# Altium schematic symbol library Capacitors Ceramic SMD 2012.SchLib: 19 symbols
Pins are listed as number, name and electrical type; pins without a type are passive.

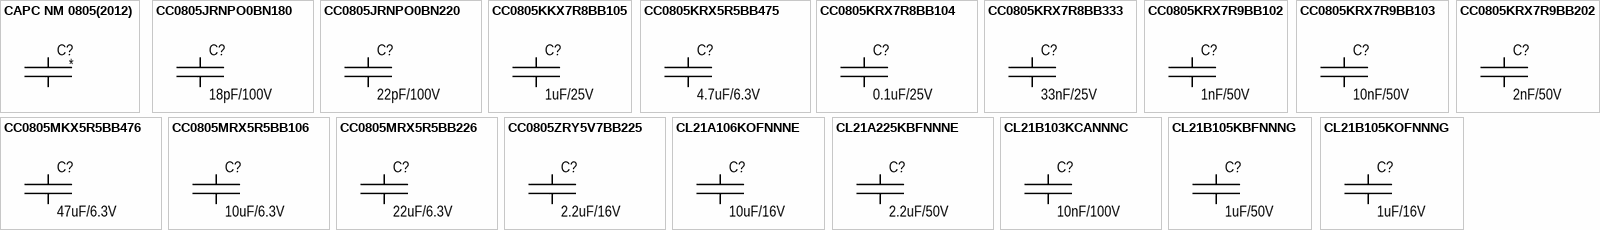
[diagram p0: symbols CAPC NM 0805(2012) to CL21B105KOFNNNG]

## CAPC NM 0805(2012)
designator C?, comment /  (value not drawn)  (no BOM)
CAPC NM 0805(2012); Group: Discrete; Type: Ceramic; Component: Capacitor Ceramic; Package: 0805 (2012); Mounting type: Surface mount (Not mounted); Height: 1.45mm; Dimension: 2.00mm x 1.25mm
footprint CAPC2012N_NM (Chip Resistor, Body 2.0x1.2mm, IPC High Density)
footprint CAPC2012M_NM (Chip Resistor, Body 2.0x1.2mm, IPC High Density)
footprint CAPC2012L_NM (Chip Resistor, Body 2.0x1.2mm, IPC High Density)
pins: 1, 2

## CC0805JRNPO0BN180
designator C?, comment 18pF/100V
CAPC 18pF 100V 0805(2012); Manufacturer: Yageo; Part name: CC0805JRNPO0BN180; Group: Discrete; Temperature coefficient: C0G, NP0; Tolerance: ±5%; Type: Ceramic; Component: Capacitor Ceramic; Voltage: 100V; Package: 0805 (2012); Capacitance: 18pF; Operating temperature: -55°C +125°C; Mounting type: Surface mount; Height: 0.70mm; Dimension: 2.00mm x 1.25mm
footprint CAPC2012N (Chip Resistor, Body 2.0x1.2mm, IPC High Density)
footprint CAPC2012M (Chip Resistor, Body 2.0x1.2mm, IPC High Density)
footprint CAPC2012L (Chip Resistor, Body 2.0x1.2mm, IPC High Density)
pins: 1, 2

## CC0805JRNPO0BN220
designator C?, comment 22pF/100V
CAPC 22pF 100V 0805(2012); Manufacturer: Yageo; Part name: CC0805JRNPO0BN220; Group: Discrete; Temperature coefficient: C0G, NP0; Tolerance: ±5%; Type: Ceramic; Component: Capacitor Ceramic; Voltage: 100V; Package: 0805 (2012); Capacitance: 22pF; Operating temperature: -55°C +125°C; Mounting type: Surface mount; Height: 0.70mm; Dimension: 2.00mm x 1.25mm
footprint CAPC2012N (Chip Resistor, Body 2.0x1.2mm, IPC High Density)
footprint CAPC2012M (Chip Resistor, Body 2.0x1.2mm, IPC High Density)
footprint CAPC2012L (Chip Resistor, Body 2.0x1.2mm, IPC High Density)
pins: 1, 2

## CC0805KKX7R8BB105
designator C?, comment 1uF/25V
CAPC 1uF 25V 0805(2012); Manufacturer: Yageo; Part name: CC0805KKX7R8BB105; Group: Discrete; Temperature coefficient: X7R; Tolerance: ±10%; Type: Ceramic; Component: Capacitor Ceramic; Voltage: 25V; Package: 0805 (2012); Capacitance: 1uF; Operating temperature: -55°C +125°C; Mounting type: Surface mount; Height: 1.45mm; Dimension: 2.00mm x 1.25mm
footprint CAPC2012N (Chip Resistor, Body 2.0x1.2mm, IPC High Density)
footprint CAPC2012M (Chip Resistor, Body 2.0x1.2mm, IPC High Density)
footprint CAPC2012L (Chip Resistor, Body 2.0x1.2mm, IPC High Density)
pins: 1, 2

## CC0805KRX5R5BB475
designator C?, comment 4.7uF/6.3V
CAPC 4.7uF 6.3V 0805(2012); Manufacturer: Yageo; Part name: CC0805KRX5R5BB475; Group: Discrete; Temperature coefficient: X5R; Tolerance: ±10%; Type: Ceramic; Component: Capacitor Ceramic; Voltage: 6.3V; Package: 0805 (2012); Capacitance: 4.7uF; Operating temperature: -55°C +85°C; Mounting type: Surface mount; Height: 1.45mm; Dimension: 2.00mm x 1.25mm
footprint CAPC2012N (Chip Resistor, Body 2.0x1.2mm, IPC High Density)
footprint CAPC2012M (Chip Resistor, Body 2.0x1.2mm, IPC High Density)
footprint CAPC2012L (Chip Resistor, Body 2.0x1.2mm, IPC High Density)
pins: 1, 2

## CC0805KRX7R8BB104
designator C?, comment 0.1uF/25V
CAPC 0.1uF 25V 0805(2012); Manufacturer: Yageo; Part name: CC0805KRX7R8BB104; Group: Discrete; Temperature coefficient: X7R; Tolerance: ±10%; Type: Ceramic; Component: Capacitor Ceramic; Voltage: 25V; Package: 0805 (2012); Capacitance: 0.1uF; Operating temperature: -55°C +125°C; Mounting type: Surface mount; Height: 1.45mm; Dimension: 2.00mm x 1.25mm
footprint CAPC2012N (Chip Resistor, Body 2.0x1.2mm, IPC High Density)
footprint CAPC2012M (Chip Resistor, Body 2.0x1.2mm, IPC High Density)
footprint CAPC2012L (Chip Resistor, Body 2.0x1.2mm, IPC High Density)
pins: 1, 2

## CC0805KRX7R8BB333
designator C?, comment 33nF/25V
CAPC 33nF 25V 0805(2012); Manufacturer: Yageo; Part name: CC0805KRX7R8BB333; Group: Discrete; Temperature coefficient: X7R; Tolerance: ±10%; Type: Ceramic; Component: Capacitor Ceramic; Voltage: 25V; Package: 0805 (2012); Capacitance: 33nF; Operating temperature: -55°C +125°C; Mounting type: Surface mount; Height: 0.95mm; Dimension: 2.00mm x 1.25mm
footprint CAPC2012N (Chip Resistor, Body 2.0x1.2mm, IPC High Density)
footprint CAPC2012M (Chip Resistor, Body 2.0x1.2mm, IPC High Density)
footprint CAPC2012L (Chip Resistor, Body 2.0x1.2mm, IPC High Density)
pins: 1, 2

## CC0805KRX7R9BB102
designator C?, comment 1nF/50V
CAPC 1nF 50V 0805(2012); Manufacturer: Yageo; Part name: CC0805KRX7R9BB102; Group: Discrete; Temperature coefficient: X7R; Tolerance: ±10%; Type: Ceramic; Component: Capacitor Ceramic; Voltage: 50V; Package: 0805 (2012); Capacitance: 1nF; Operating temperature: -55°C +125°C; Mounting type: Surface mount; Height: 0.60mm; Dimension: 2.00mm x 1.25mm
footprint CAPC2012M (Chip Resistor, Body 2.0x1.2mm, IPC High Density)
footprint CAPC2012L (Chip Resistor, Body 2.0x1.2mm, IPC High Density)
footprint CAPC2012N (Chip Resistor, Body 2.0x1.2mm, IPC High Density)
pins: 1, 2

## CC0805KRX7R9BB103
designator C?, comment 10nF/50V
CAPC 10nF 50V 0805(2012); Manufacturer: Yageo; Part name: CC0805KRX7R9BB103; Group: Discrete; Temperature coefficient: X7R; Tolerance: ±10%; Type: Ceramic; Component: Capacitor Ceramic; Voltage: 50V; Package: 0805 (2012); Capacitance: 10nF; Operating temperature: -55°C +125°C; Mounting type: Surface mount; Height: 0.60mm; Dimension: 2.00mm x 1.25mm
footprint CAPC2012N (Chip Resistor, Body 2.0x1.2mm, IPC High Density)
footprint CAPC2012M (Chip Resistor, Body 2.0x1.2mm, IPC High Density)
footprint CAPC2012L (Chip Resistor, Body 2.0x1.2mm, IPC High Density)
pins: 1, 2

## CC0805KRX7R9BB202
designator C?, comment 2nF/50V
CAPC 2nF 50V 0805(2012); Manufacturer: Yageo; Part name: CC0805KRX7R9BB202; Group: Discrete; Temperature coefficient: X7R; Tolerance: ±10%; Type: Ceramic; Component: Capacitor Ceramic; Voltage: 50V; Package: 0805 (2012); Capacitance: 2nF; Operating temperature: -55°C +125°C; Mounting type: Surface mount; Height: 0.60mm; Dimension: 2.00mm x 1.25mm
footprint CAPC2012N (Chip Resistor, Body 2.0x1.2mm, IPC High Density)
footprint CAPC2012M (Chip Resistor, Body 2.0x1.2mm, IPC High Density)
footprint CAPC2012L (Chip Resistor, Body 2.0x1.2mm, IPC High Density)
pins: 1, 2

## CC0805MKX5R5BB476
designator C?, comment 47uF/6.3V
CAPC 47uF 6.3V 0805(2012); Manufacturer: Yageo; Part name: CC0805MKX5R5BB476; Group: Discrete; Temperature coefficient: X5R; Tolerance: ±20%; Type: Ceramic; Component: Capacitor Ceramic; Voltage: 6.3V; Package: 0805 (2012); Capacitance: 47uF; Operating temperature: -55°C +85°C; Mounting type: Surface mount; Height: 1.45mm; Dimension: 2.00mm x 1.25mm
footprint CAPC2012N (Chip Resistor, Body 2.0x1.2mm, IPC High Density)
footprint CAPC2012M (Chip Resistor, Body 2.0x1.2mm, IPC High Density)
footprint CAPC2012L (Chip Resistor, Body 2.0x1.2mm, IPC High Density)
pins: 1, 2

## CC0805MRX5R5BB106
designator C?, comment 10uF/6.3V
CAPC 10uF 6.3V 0805(2012); Manufacturer: Yageo; Part name: CC0805MRX5R5BB106; Group: Discrete; Temperature coefficient: X5R; Tolerance: ±20%; Type: Ceramic; Component: Capacitor Ceramic; Voltage: 6.3V; Package: 0805 (2012); Capacitance: 10uF; Operating temperature: -55°C +85°C; Mounting type: Surface mount; Height: 1.45mm; Dimension: 2.00mm x 1.25mm
footprint CAPC2012N (Chip Resistor, Body 2.0x1.2mm, IPC High Density)
footprint CAPC2012M (Chip Resistor, Body 2.0x1.2mm, IPC High Density)
footprint CAPC2012L (Chip Resistor, Body 2.0x1.2mm, IPC High Density)
pins: 1, 2

## CC0805MRX5R5BB226
designator C?, comment 22uF/6.3V
CAPC 22uF 6.3V 0805(2012); Manufacturer: Yageo; Part name: CC0805MRX5R5BB226; Group: Discrete; Temperature coefficient: X5R; Tolerance: ±20%; Type: Ceramic; Component: Capacitor Ceramic; Voltage: 6.3V; Package: 0805 (2012); Capacitance: 22uF; Operating temperature: -55°C +85°C; Mounting type: Surface mount; Height: 1.45mm; Dimension: 2.00mm x 1.25mm
footprint CAPC2012N (Chip Resistor, Body 2.0x1.2mm, IPC High Density)
footprint CAPC2012M (Chip Resistor, Body 2.0x1.2mm, IPC High Density)
footprint CAPC2012L (Chip Resistor, Body 2.0x1.2mm, IPC High Density)
pins: 1, 2

## CC0805ZRY5V7BB225
designator C?, comment 2.2uF/16V
CAPC 2.2uF 16V 0805(2012); Manufacturer: Yageo; Part name: CC0805ZRY5V7BB225; Group: Discrete; Temperature coefficient: Y5V (F); Tolerance: -20% +80%; Type: Ceramic; Component: Capacitor Ceramic; Voltage: 16V; Package: 0805 (2012); Capacitance: 2.2uF; Operating temperature: -55°C +125°C; Mounting type: Surface mount; Height: 1.45mm; Dimension: 2.00mm x 1.25mm
footprint CAPC2012N (Chip Resistor, Body 2.0x1.2mm, IPC High Density)
footprint CAPC2012M (Chip Resistor, Body 2.0x1.2mm, IPC High Density)
footprint CAPC2012L (Chip Resistor, Body 2.0x1.2mm, IPC High Density)
pins: 1, 2

## CL21A106KOFNNNE
designator C?, comment 10uF/16V
CAPC 10uF 16V 0805(2012); Manufacturer: Samsung; Part name: CL21A106KOFNNNE; Group: Discrete; Temperature coefficient: X5R; Tolerance: ±10%; Type: Ceramic; Component: Capacitor Ceramic; Voltage: 16V; Package: 0805 (2012); Capacitance: 10uF; Operating temperature: -55°C +85°C; Mounting type: Surface mount; Height: 1.35mm; Dimension: 2.00mm x 1.25mm
footprint CAPC2012N (Chip Resistor, Body 2.0x1.2mm, IPC High Density)
footprint CAPC2012M (Chip Resistor, Body 2.0x1.2mm, IPC High Density)
footprint CAPC2012L (Chip Resistor, Body 2.0x1.2mm, IPC High Density)
pins: 1, 2

## CL21A225KBFNNNE
designator C?, comment 2.2uF/50V
CAPC 2.2uF 50V 0805(2012); Manufacturer: Samsung; Part name: CL21A225KBFNNNE; Group: Discrete; Temperature coefficient: X5R; Tolerance: ±10%; Type: Ceramic; Component: Capacitor Ceramic; Voltage: 50V; Package: 0805 (2012); Capacitance: 2.2uF; Operating temperature: -55°C +125°C; Mounting type: Surface mount; Height: 1.35mm; Dimension: 2.00mm x 1.25mm
footprint CAPC2012N (Chip Resistor, Body 2.0x1.2mm, IPC High Density)
footprint CAPC2012M (Chip Resistor, Body 2.0x1.2mm, IPC High Density)
footprint CAPC2012L (Chip Resistor, Body 2.0x1.2mm, IPC High Density)
pins: 1, 2

## CL21B103KCANNNC
designator C?, comment 10nF/100V
CAPC 10nF 100V 0805(2012); Manufacturer: Samsung; Part name: CL21B103KCANNNC; Group: Discrete; Temperature coefficient: X7R; Tolerance: ±10%; Type: Ceramic; Component: Capacitor Ceramic; Voltage: 100V; Package: 0805 (2012); Capacitance: 10nF; Operating temperature: -55°C +125°C; Mounting type: Surface mount; Height: 0.75mm; Dimension: 2.00mm x 1.25mm
footprint CAPC2012N (Chip Resistor, Body 2.0x1.2mm, IPC High Density)
footprint CAPC2012M (Chip Resistor, Body 2.0x1.2mm, IPC High Density)
footprint CAPC2012L (Chip Resistor, Body 2.0x1.2mm, IPC High Density)
pins: 1, 2

## CL21B105KBFNNNG
designator C?, comment 1uF/50V
CAPC 1uF 50V 0805(2012); Manufacturer: Samsung; Part name: CL21B105KBFNNNG; Group: Discrete; Temperature coefficient: X7R; Tolerance: ±10%; Type: Ceramic; Component: Capacitor Ceramic; Voltage: 50V; Package: 0805 (2012); Capacitance: 1uF; Operating temperature: -55°C +125°C; Mounting type: Surface mount; Height: 1.35mm; Dimension: 2.00mm x 1.25mm
footprint CAPC2012N (Chip Resistor, Body 2.0x1.2mm, IPC High Density)
footprint CAPC2012M (Chip Resistor, Body 2.0x1.2mm, IPC High Density)
footprint CAPC2012L (Chip Resistor, Body 2.0x1.2mm, IPC High Density)
pins: 1, 2

## CL21B105KOFNNNG
designator C?, comment 1uF/16V
CAPC 1uF 16V 0805(2012); Manufacturer: Samsung; Part name: CL21B105KOFNNNG; Group: Discrete; Temperature coefficient: X7R; Tolerance: ±10%; Type: Ceramic; Component: Capacitor Ceramic; Voltage: 16V; Package: 0805 (2012); Capacitance: 1uF; Operating temperature: -55°C +125°C; Mounting type: Surface mount; Height: 1.35mm; Dimension: 2.00mm x 1.25mm
footprint CAPC2012N (Chip Resistor, Body 2.0x1.2mm, IPC High Density)
footprint CAPC2012M (Chip Resistor, Body 2.0x1.2mm, IPC High Density)
footprint CAPC2012L (Chip Resistor, Body 2.0x1.2mm, IPC High Density)
pins: 1, 2